# EAGLE library part SWITCH-SLIDE-E2315 (library LITTLEBITS140915)
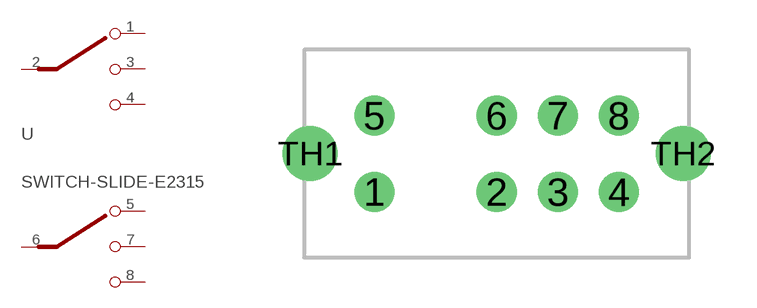
[diagram p54: symbol with the pads of SWITCH-SLIDE-E2315; footprint SWITCH-SLIDE-E2315]

Designator prefix -

## SWITCH-SLIDE-E2315 (MFG: E-Switch; MPN: E2315)  [SWITCH-SLIDE-E2315]
1  P$1  pas
2  P$2  pas
3  P$3  pas
4  P$4  pas
5  P$5  pas
6  P$6  pas
7  P$7  pas
8  P$8  pas

## Footprint SWITCH-SLIDE-E2315 (pad centres in mm)
drill 0.8: 1 2.1,-1.25; 2 6.1,-1.25; 3 8.1,-1.25; 4 10.1,-1.25; 5 2.1,1.25; 6 6.1,1.25; 7 8.1,1.25; 8 10.1,1.25
drill 1.2: TH1 0,0; TH2 12.2,0